# Altium schematic symbol library TTL74系列IC.SCHLIB: 343 symbols (part 3 of 3)
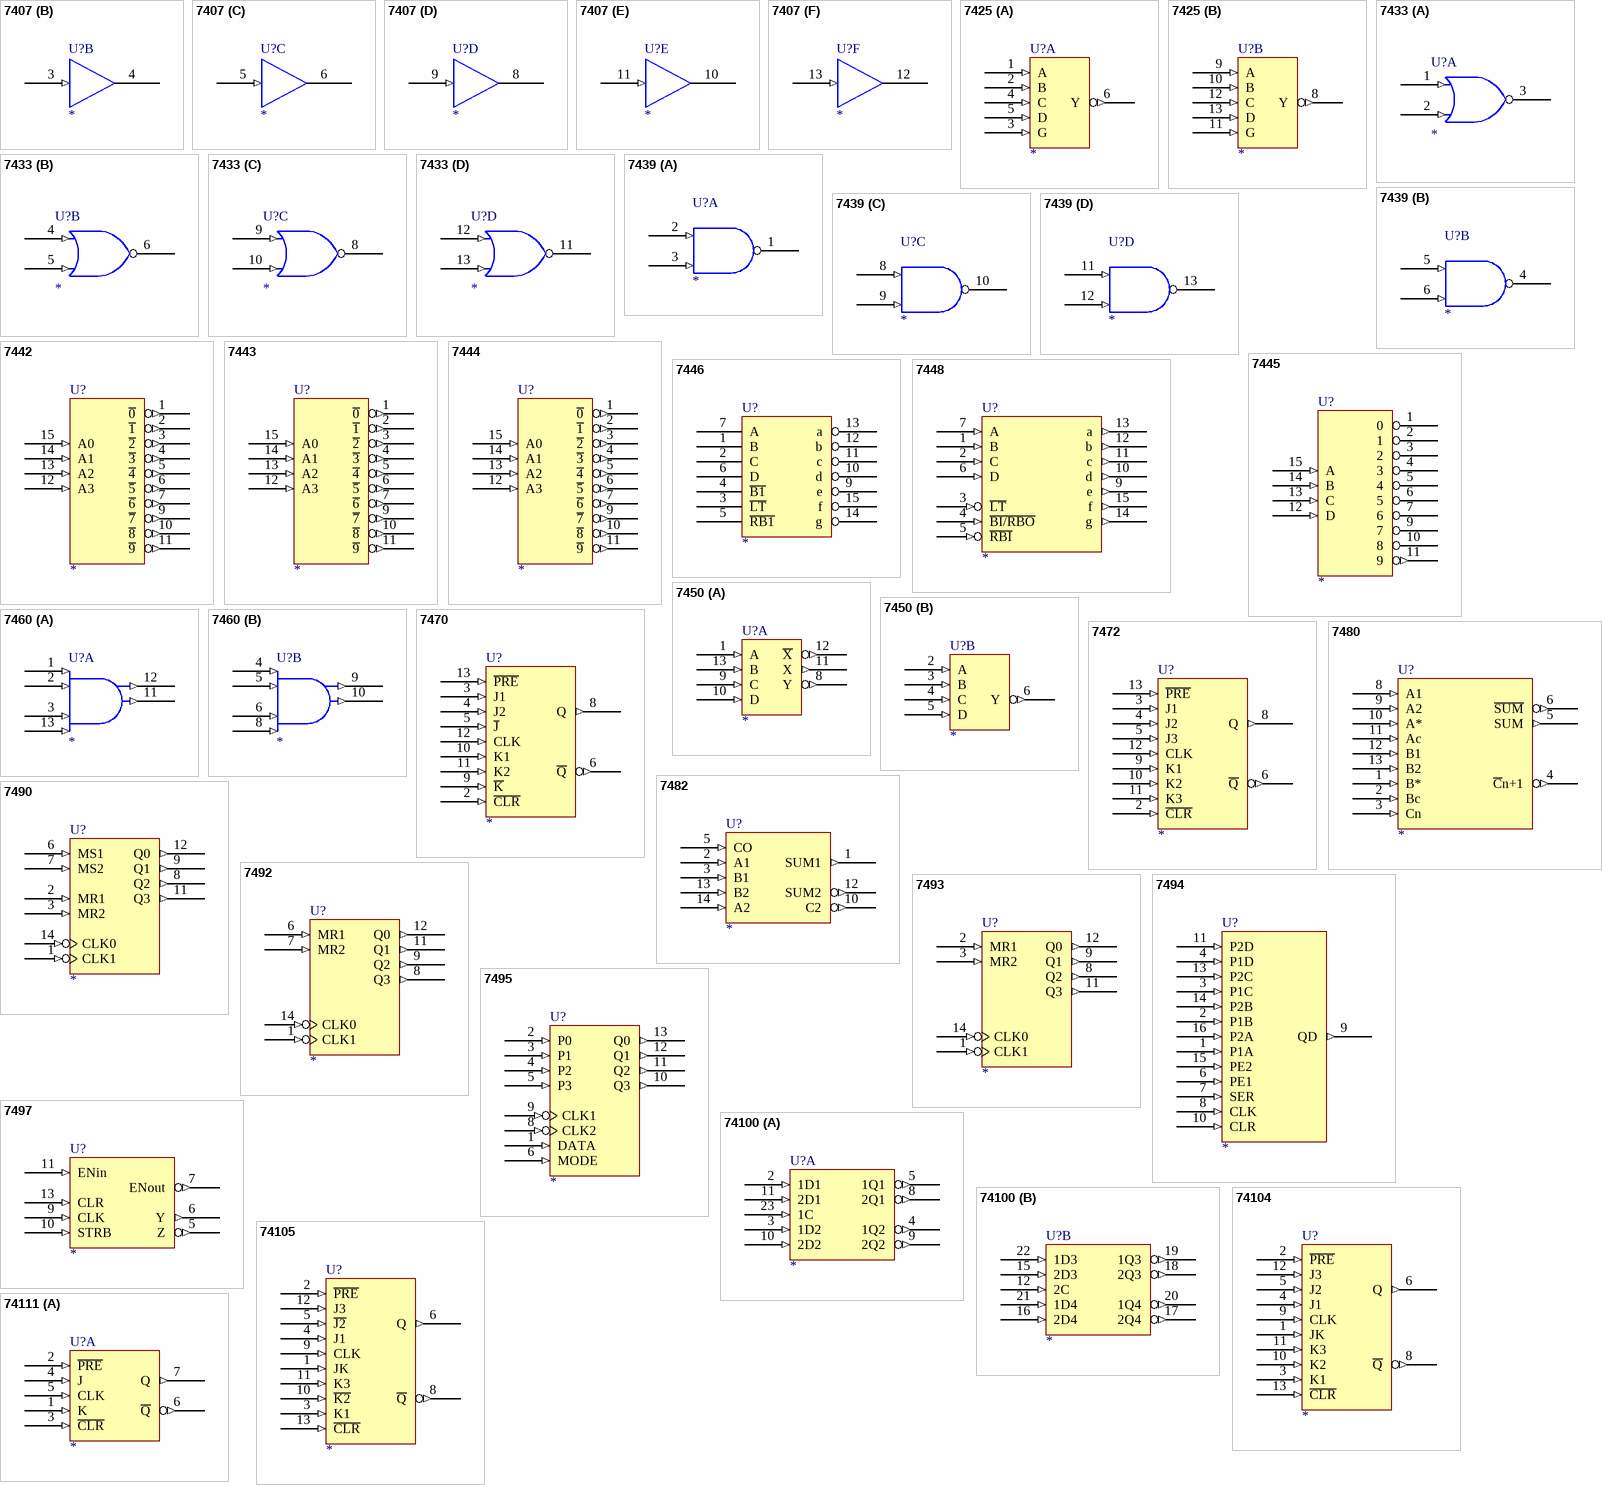
[diagram p16: symbols 7407 to 74111]

## 7448
designator U?
footprint DIP-16
pins: 1 B (in), 2 C (in), 3 ~{LT} (in), 4 ~{BI/RBO} (in), 5 ~{RBI} (in), 6 D (in), 7 A (in), 8 GND (power) hidden to GND, 9 e (out), 10 d (out), 11 c (out), 12 b (out), 13 a (out), 14 g (out), 15 f (out), 16 VCC (power) hidden to VCC

## 7450
designator U?
footprint DIP-14
part A pins: 1 A (in), 7 GND (power) hidden to GND, 8 Y (out), 9 C (in), 10 D (in), 11 X (out), 12 ~{X} (out), 13 B (in)
part B pins: 2 A (in), 3 B (in), 4 C (in), 5 D (in), 6 Y (out), 7 GND (power) hidden to GND

## 7460
designator U?
footprint DIP-14
part A pins: 1 (in), 2 (in), 3 (in), 7 GND (power) hidden to GND, 11 (out), 12 (out), 13 (in), 14 VCC (power) hidden to VCC
part B pins: 4 (in), 5 (in), 6 (in), 7 GND (power) hidden to GND, 8 (in), 9 (out), 10 (out), 14 VCC (power) hidden to VCC

## 7470
designator U?
footprint DIP-14
pins: 2 ~{CLR} (in), 3 J1 (in), 4 J2 (in), 5 ~{J} (in), 6 ~{Q} (out), 7 GND (power) hidden to GND, 8 Q (out), 9 ~{K} (in), 10 K1 (in), 11 K2 (in), 12 CLK (in), 13 ~{PRE} (in), 14 VCC (power) hidden to VCC

## 7472
designator U?
footprint DIP-14
pins: 2 ~{CLR} (in), 3 J1 (in), 4 J2 (in), 5 J3 (in), 6 ~{Q} (out), 7 GND (power) hidden to GND, 8 Q (out), 9 K1 (in), 10 K2 (in), 11 K3 (in), 12 CLK (in), 13 ~{PRE} (in), 14 VCC (power) hidden to VCC

## 7480
designator U?
footprint DIP-14
pins: 1 B* (in), 2 Bc (in), 3 Cn (in), 4 ~{C}n+1 (out), 5 SUM (out), 6 ~{SUM} (out), 7 GND (power) hidden to GND, 8 A1 (in), 9 A2 (in), 10 A* (in), 11 Ac (in), 12 B1 (in), 13 B2 (in), 14 VCC (power) hidden to VCC

## 7482
designator U?
footprint DIP-14
pins: 1 SUM1 (out), 2 A1 (in), 3 B1 (in), 4 VCC (power) hidden to VCC, 5 CO (in), 10 C2 (out), 11 GND (power) hidden to GND, 12 SUM2 (out), 13 B2 (in), 14 A2 (in)

## 7490
designator U?
footprint DIP-14
pins: 1 CLK1 (in), 2 MR1 (in), 3 MR2 (in), 5 VCC (power) hidden to VCC, 6 MS1 (in), 7 MS2 (in), 8 Q2 (out), 9 Q1 (out), 10 GND (power) hidden to GND, 11 Q3 (out), 12 Q0 (out), 14 CLK0 (in)

## 7492
designator U?
footprint DIP-14
pins: 1 CLK1 (in), 5 VCC (power) hidden to VCC, 6 MR1 (in), 7 MR2 (in), 8 Q3 (out), 9 Q2 (out), 10 GND (power) hidden to GND, 11 Q1 (out), 12 Q0 (out), 14 CLK0 (in)

## 7493
designator U?
footprint DIP-14
pins: 1 CLK1 (in), 2 MR1 (in), 3 MR2 (in), 5 VCC (power) hidden to VCC, 8 Q2 (out), 9 Q1 (out), 10 GND (power) hidden to GND, 11 Q3 (out), 12 Q0 (out), 14 CLK0 (in)

## 7494
designator U?
footprint DIP-16
pins: 1 P1A (in), 2 P1B (in), 3 P1C (in), 4 P1D (in), 5 VCC (power) hidden to VCC, 6 PE1 (in), 7 SER (in), 8 CLK (in), 9 QD (out), 10 CLR (in), 11 P2D (in), 12 GND (power) hidden to GND, 13 P2C (in), 14 P2B (in), 15 PE2 (in), 16 P2A (in)

## 7495
designator U?
footprint DIP-16
pins: 1 DATA (in), 2 P0 (in), 3 P1 (in), 4 P2 (in), 5 P3 (in), 6 MODE (in), 7 GND (power) hidden to GND, 8 CLK2 (in), 9 CLK1 (in), 10 Q3 (out), 11 Q2 (out), 12 Q1 (out), 13 Q0 (out), 16 VCC (power) hidden to VCC

## 7497
designator U?
footprint DIP-16
pins: 5 Z (out), 6 Y (out), 7 ENout (out), 8 GND (power) hidden to GND, 9 CLK (in), 10 STRB (in), 11 ENin (in), 13 CLR (in), 16 VCC (power) hidden to VCC

## 74100
designator U?
footprint DIP-24
part A pins: 2 1D1 (in), 3 1D2 (in), 4 1Q2 (out), 5 1Q1 (out), 7 GND (power) hidden to GND, 8 2Q1 (out), 9 2Q2 (out), 10 2D2 (in), 11 2D1 (in), 23 1C (in)
part B pins: 7 GND (power) hidden to GND, 12 2C (in), 15 2D3 (in), 16 2D4 (in), 17 2Q4 (out), 18 2Q3 (out), 19 1Q3 (out), 20 1Q4 (out), 21 1D4 (in), 22 1D3 (in)

## 74104
designator U?
footprint DIP-14
pins: 1 JK (in), 2 ~{PRE} (in), 3 K1 (in), 4 J1 (in), 5 J2 (in), 6 Q (out), 7 GND (power) hidden to GND, 8 ~{Q} (out), 9 CLK (in), 10 K2 (in), 11 K3 (in), 12 J3 (in), 13 ~{CLR} (in), 14 VCC (power) hidden to VCC

## 74105
designator U?
footprint DIP-14
pins: 1 JK (in), 2 ~{PRE} (in), 3 K1 (in), 4 J1 (in), 5 ~{J2} (in), 6 Q (out), 7 GND (power) hidden to GND, 8 ~{Q} (out), 9 CLK (in), 10 ~{K2} (in), 11 K3 (in), 12 J3 (in), 13 ~{CLR} (in), 14 VCC (power) hidden to VCC

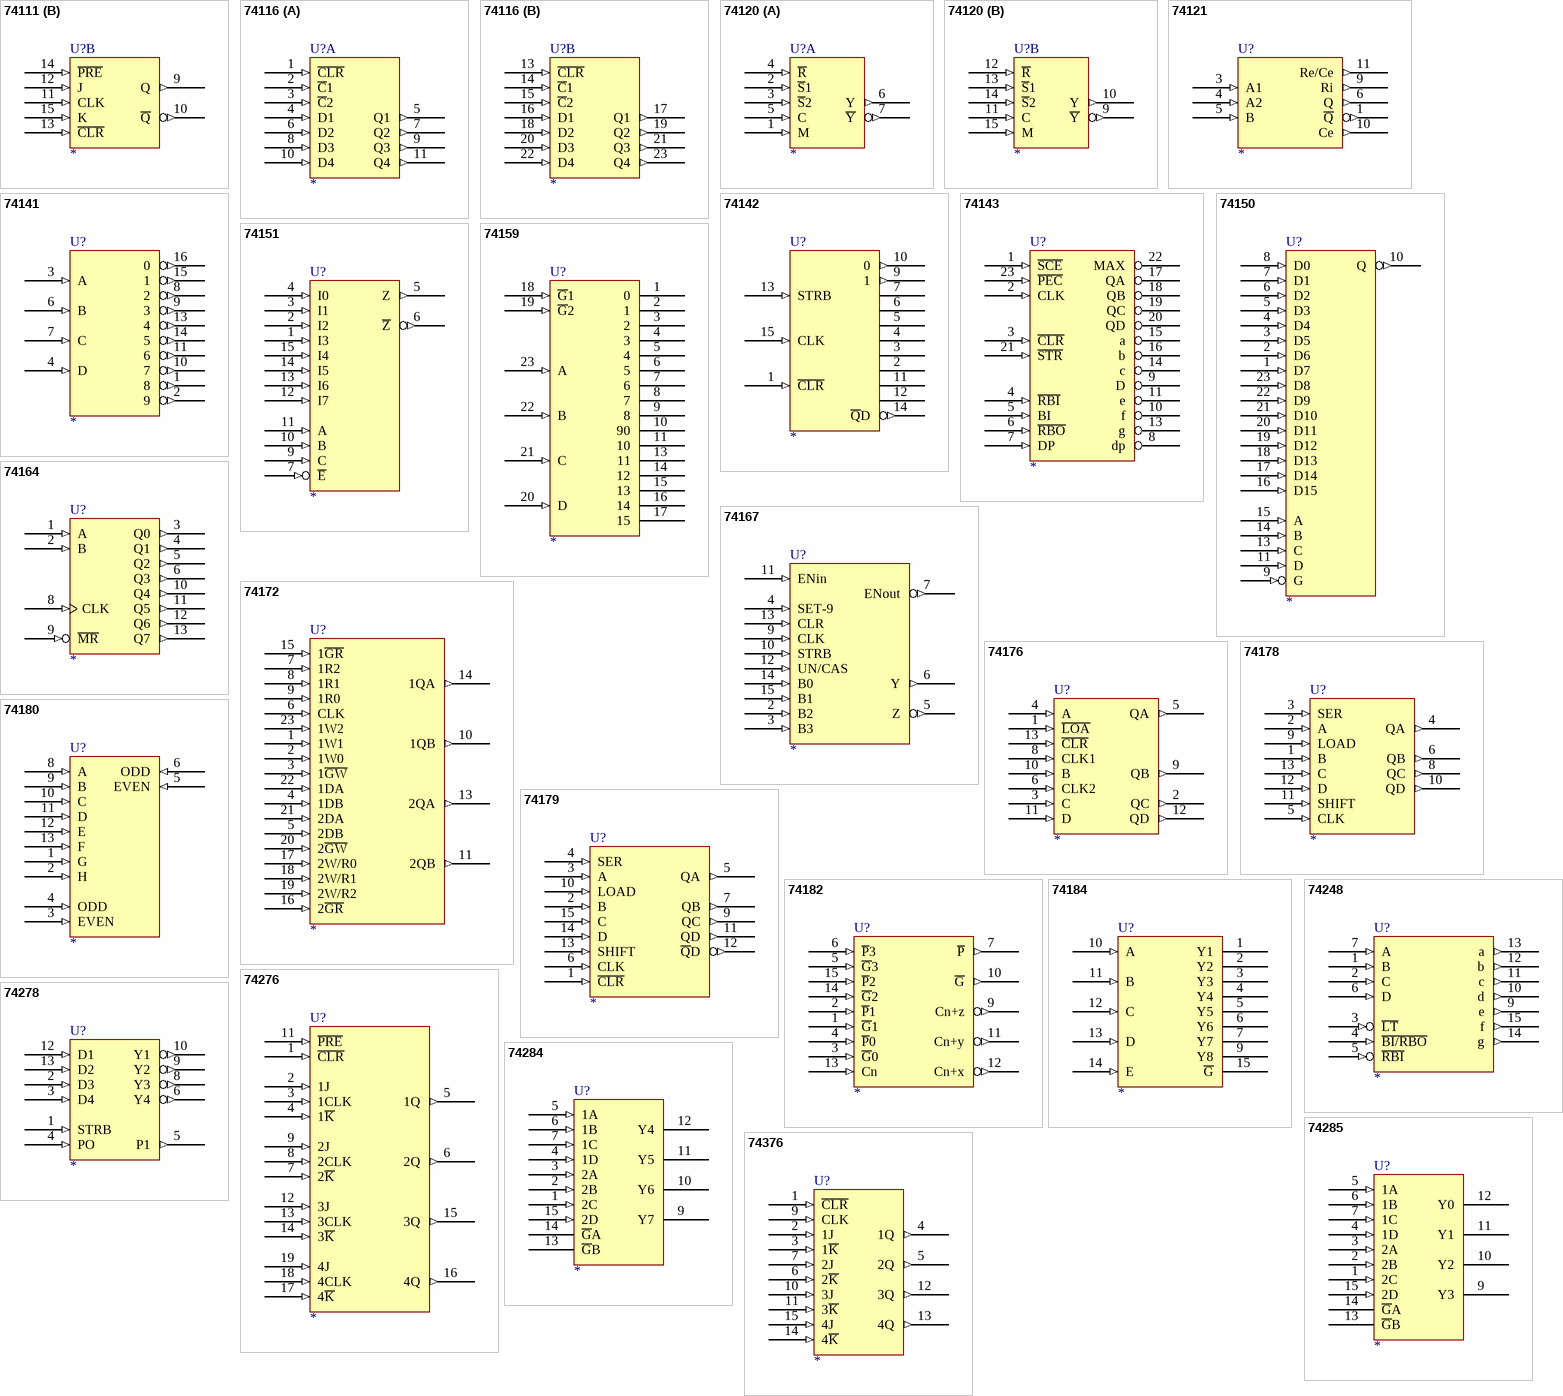
[diagram p14: symbols 74111 to 74376]

## 74111
designator U?
footprint DIP-16
part A pins: 1 K (in), 2 ~{PRE} (in), 3 ~{CLR} (in), 4 J (in), 5 CLK (in), 6 ~{Q} (out), 7 Q (out), 8 GND (power) hidden to GND, 16 VCC (power) hidden to VCC
part B pins: 8 GND (power) hidden to GND, 9 Q (out), 10 ~{Q} (out), 11 CLK (in), 12 J (in), 13 ~{CLR} (in), 14 ~{PRE} (in), 15 K (in), 16 VCC (power) hidden to VCC

## 74116
designator U?
footprint DIP-24
part A pins: 1 ~{CLR} (in), 2 ~{C}1 (in), 3 ~{C}2 (in), 4 D1 (in), 5 Q1 (out), 6 D2 (in), 7 Q2 (out), 8 D3 (in), 9 Q3 (out), 10 D4 (in), 11 Q4 (out), 12 GND (power) hidden to GND, 24 VCC (power) hidden to VCC
part B pins: 12 GND (power) hidden to GND, 13 ~{CLR} (in), 14 ~{C}1 (in), 15 ~{C}2 (in), 16 D1 (in), 17 Q1 (out), 18 D2 (in), 19 Q2 (out), 20 D3 (in), 21 Q3 (out), 22 D4 (in), 23 Q4 (out), 24 VCC (power) hidden to VCC

## 74120
designator U?
footprint DIP-16
part A pins: 1 M (in), 2 ~{S}1 (in), 3 ~{S}2 (in), 4 ~{R} (in), 5 C (in), 6 Y (out), 7 ~{Y} (out), 8 GND (power) hidden to GND, 16 VCC (power) hidden to VCC
part B pins: 8 GND (power) hidden to GND, 9 ~{Y} (out), 10 Y (out), 11 C (in), 12 ~{R} (in), 13 ~{S}1 (in), 14 ~{S}2 (in), 15 M (in), 16 VCC (power) hidden to VCC

## 74121
designator U?
footprint DIP-14
pins: 1 ~{Q} (out), 3 A1 (in), 4 A2 (in), 5 B (in), 6 Q (out), 7 GND (power) hidden to GND, 9 Ri (out), 10 Ce (out), 11 Re/Ce (out), 14 VCC (power) hidden to VCC

## 74141
designator U?
footprint DIP-16
pins: 1 8 (out), 2 9 (out), 3 A (in), 4 D (in), 5 VCC (power) hidden to VCC, 6 B (in), 7 C (in), 8 2 (out), 9 3 (out), 10 7 (out), 11 6 (out), 12 GND (power) hidden to GND, 13 4 (out), 14 5 (out), 15 1 (out), 16 0 (out)

## 74142
designator U?
footprint DIP-16
pins: 1 ~{CLR} (in), 2, 3, 4, 5, 6, 7, 8 GND (power) hidden to GND, 9 1 (out), 10 0 (out), 11, 12, 13 STRB (in), 14 ~{Q}D (out), 15 CLK (in), 16 VCC (power) hidden to VCC

## 74143
designator U?
footprint DIP-24
pins: 1 ~{SCE} (in), 2 CLK (in), 3 ~{CLR} (in), 4 ~{RBI} (in), 5 BI (in), 6 ~{RBO} (in), 7 DP (in), 8 dp (oc), 9 D (oc), 10 f (oc), 11 e (oc), 12 GND (power) hidden to GND, 13 g (oc), 14 c (oc), 15 a (oc), 16 b (oc), 17 QA (oc), 18 QB (oc), 19 QC (oc), 20 QD (oc), 21 ~{STR} (in), 22 MAX (oc), 23 ~{PEC} (in), 24 VCC (power) hidden to VCC

## 74150
designator U?
footprint DIP-24
pins: 1 D7 (in), 2 D6 (in), 3 D5 (in), 4 D4 (in), 5 D3 (in), 6 D2 (in), 7 D1 (in), 8 D0 (in), 9 G (in), 10 Q (out), 11 D (in), 12 GND (power) hidden to GND, 13 C (in), 14 B (in), 15 A (in), 16 D15 (in), 17 D14 (in), 18 D13 (in), 19 D12 (in), 20 D11 (in), 21 D10 (in), 22 D9 (in), 23 D8 (in), 24 VCC (power) hidden to VCC

## 74151
designator U?
footprint DIP-16
pins: 1 I3 (in), 2 I2 (in), 3 I1 (in), 4 I0 (in), 5 Z (out), 6 ~{Z} (out), 7 ~{E} (in), 8 GND (power) hidden to GND, 9 C (in), 10 B (in), 11 A (in), 12 I7 (in), 13 I6 (in), 14 I5 (in), 15 I4 (in), 16 VCC (power) hidden to VCC

## 74159
designator U?
footprint DIP-24
pins: 1 0 (oc), 2 1 (oc), 3 2 (oc), 4 3 (oc), 5 4 (oc), 6 5 (oc), 7 6 (oc), 8 7 (oc), 9 8 (oc), 10 90 (oc), 11 10 (oc), 12 GND (power) hidden to GND, 13 11 (oc), 14 12 (oc), 15 13 (oc), 16 14 (oc), 17 15 (oc), 18 ~{G}1 (in), 19 ~{G}2 (in), 20 D (in), 21 C (in), 22 B (in), 23 A (in), 24 VCC (power) hidden to VCC

## 74164
designator U?
footprint DIP-14
pins: 1 A (in), 2 B (in), 3 Q0 (out), 4 Q1 (out), 5 Q2 (out), 6 Q3 (out), 7 GND (power) hidden to GND, 8 CLK (in), 9 ~{MR} (in), 10 Q4 (out), 11 Q5 (out), 12 Q6 (out), 13 Q7 (out), 14 VCC (power) hidden to VCC

## 74167
designator U?
footprint DIP-16
pins: 1 VCC (power) hidden to VCC, 2 B2 (in), 3 B3 (in), 4 SET-9 (in), 5 Z (out), 6 Y (out), 7 ENout (out), 8 GND (power) hidden to GND, 9 CLK (in), 10 STRB (in), 11 ENin (in), 12 UN/CAS (in), 13 CLR (in), 14 B0 (in), 15 B1 (in)

## 74172
designator U?
footprint DIP-24
pins: 1 1W1 (in), 2 1W0 (in), 3 1~{GW} (in), 4 1DB (in), 5 2DB (in), 6 CLK (in), 7 1R2 (in), 8 1R1 (in), 9 1R0 (in), 10 1QB (out), 11 2QB (out), 12 GND (power) hidden to GND, 13 2QA (out), 14 1QA (out), 15 1~{GR} (in), 16 2~{GR} (in), 17 2W/R0 (in), 18 2W/R1 (in), 19 2W/R2 (in), 20 2~{GW} (in), 21 2DA (in), 22 1DA (in), 23 1W2 (in), 24 VCC (power) hidden to VCC

## 74176
designator U?
footprint DIP-14
pins: 1 ~{LOA} (in), 2 QC (out), 3 C (in), 4 A (in), 5 QA (out), 6 CLK2 (in), 7 GND (power) hidden to GND, 8 CLK1 (in), 9 QB (out), 10 B (in), 11 D (in), 12 QD (out), 13 ~{CLR} (in), 14 VCC (power) hidden to VCC

## 74178
designator U?
footprint DIP-14
pins: 1 B (in), 2 A (in), 3 SER (in), 4 QA (out), 5 CLK (in), 6 QB (out), 7 GND (power) hidden to GND, 8 QC (out), 9 LOAD (in), 10 QD (out), 11 SHIFT (in), 12 D (in), 13 C (in), 14 VCC (power) hidden to VCC

## 74179
designator U?
footprint DIP-16
pins: 1 ~{CLR} (in), 2 B (in), 3 A (in), 4 SER (in), 5 QA (out), 6 CLK (in), 7 QB (out), 8 GND (power) hidden to GND, 9 QC (out), 10 LOAD (in), 11 QD (out), 12 ~{Q}D (out), 13 SHIFT (in), 14 D (in), 15 C (in), 16 VCC (power) hidden to VCC

## 74180
designator U?
footprint DIP-14
pins: 1 G (in), 2 H (in), 3 EVEN (in), 4 ODD (in), 5 EVEN (in), 6 ODD (in), 7 GND (power) hidden to GND, 8 A (in), 9 B (in), 10 C (in), 11 D (in), 12 E (in), 13 F (in), 14 VCC (power) hidden to VCC

## 74182
designator U?
footprint DIP-16
pins: 1 ~{G}1 (in), 2 ~{P}1 (in), 3 ~{G}0 (in), 4 ~{P}0 (in), 5 ~{G}3 (in), 6 ~{P}3 (in), 7 ~{P} (out), 8 GND (power) hidden to GND, 9 Cn+z (out), 10 ~{G} (out), 11 Cn+y (out), 12 Cn+x (out), 13 Cn (in), 14 ~{G}2 (in), 15 ~{P}2 (in), 16 VCC (power) hidden to VCC

## 74184
designator U?
footprint DIP-16
pins: 1 Y1 (oc), 2 Y2 (oc), 3 Y3 (oc), 4 Y4 (oc), 5 Y5 (oc), 6 Y6 (oc), 7 Y7 (oc), 8 GND (power) hidden to GND, 9 Y8 (oc), 10 A (in), 11 B (in), 12 C (in), 13 D (in), 14 E (in), 15 ~{G} (oc), 16 VCC (power) hidden to VCC

## 74248
designator U?
footprint DIP-16
pins: 1 B (in), 2 C (in), 3 ~{LT} (in), 4 ~{BI/RBO} (in), 5 ~{RBI} (in), 6 D (in), 7 A (in), 8 GND (power) hidden to GND, 9 e (out), 10 d (out), 11 c (out), 12 b (out), 13 a (out), 14 g (out), 15 f (out), 16 VCC (power) hidden to VCC

## 74276
designator U?
footprint DIP-20
pins: 1 ~{CLR} (in), 2 1J (in), 3 1CLK (in), 4 1~{K} (in), 5 1Q (out), 6 2Q (out), 7 2~{K} (in), 8 2CLK (in), 9 2J (in), 10 GND (power) hidden to GND, 11 ~{PRE} (in), 12 3J (in), 13 3CLK (in), 14 3~{K} (in), 15 3Q (out), 16 4Q (out), 17 4~{K} (in), 18 4CLK (in), 19 4J (in), 20 VCC (power) hidden to VCC

## 74278
designator U?
footprint DIP-14
pins: 1 STRB (in), 2 D3 (in), 3 D4 (in), 4 PO (in), 5 P1 (out), 6 Y4 (out), 7 GND (power) hidden to GND, 8 Y3 (out), 9 Y2 (out), 10 Y1 (out), 12 D1 (in), 13 D2 (in), 14 VCC (power) hidden to VCC

## 74284
designator U?
footprint DIP-16
pins: 1 2C (in), 2 2B (in), 3 2A (in), 4 1D (in), 5 1A (in), 6 1B (in), 7 1C (in), 8 GND (power) hidden to GND, 9 Y7 (oc), 10 Y6 (oc), 11 Y5 (oc), 12 Y4 (oc), 13 ~{G}B, 14 ~{G}A, 15 2D (in), 16 VCC (power) hidden to VCC

## 74285
designator U?
footprint DIP-16
pins: 1 2C (in), 2 2B (in), 3 2A (in), 4 1D (in), 5 1A (in), 6 1B (in), 7 1C (in), 8 GND (power) hidden to GND, 9 Y3 (oc), 10 Y2 (oc), 11 Y1 (oc), 12 Y0 (oc), 13 ~{G}B, 14 ~{G}A, 15 2D (in), 16 VCC (power) hidden to VCC

## 74376
designator U?
footprint DIP-16
pins: 1 ~{CLR} (in), 2 1J (in), 3 1~{K} (in), 4 1Q (out), 5 2Q (out), 6 2~{K} (in), 7 2J (in), 8 GND (power) hidden to GND, 9 CLK (in), 10 3J (in), 11 3~{K} (in), 12 3Q (out), 13 4Q (out), 14 4~{K} (in), 15 4J (in), 16 VCC (power) hidden to VCC